# EAGLE library part DA14680 (library Deegou_IC)
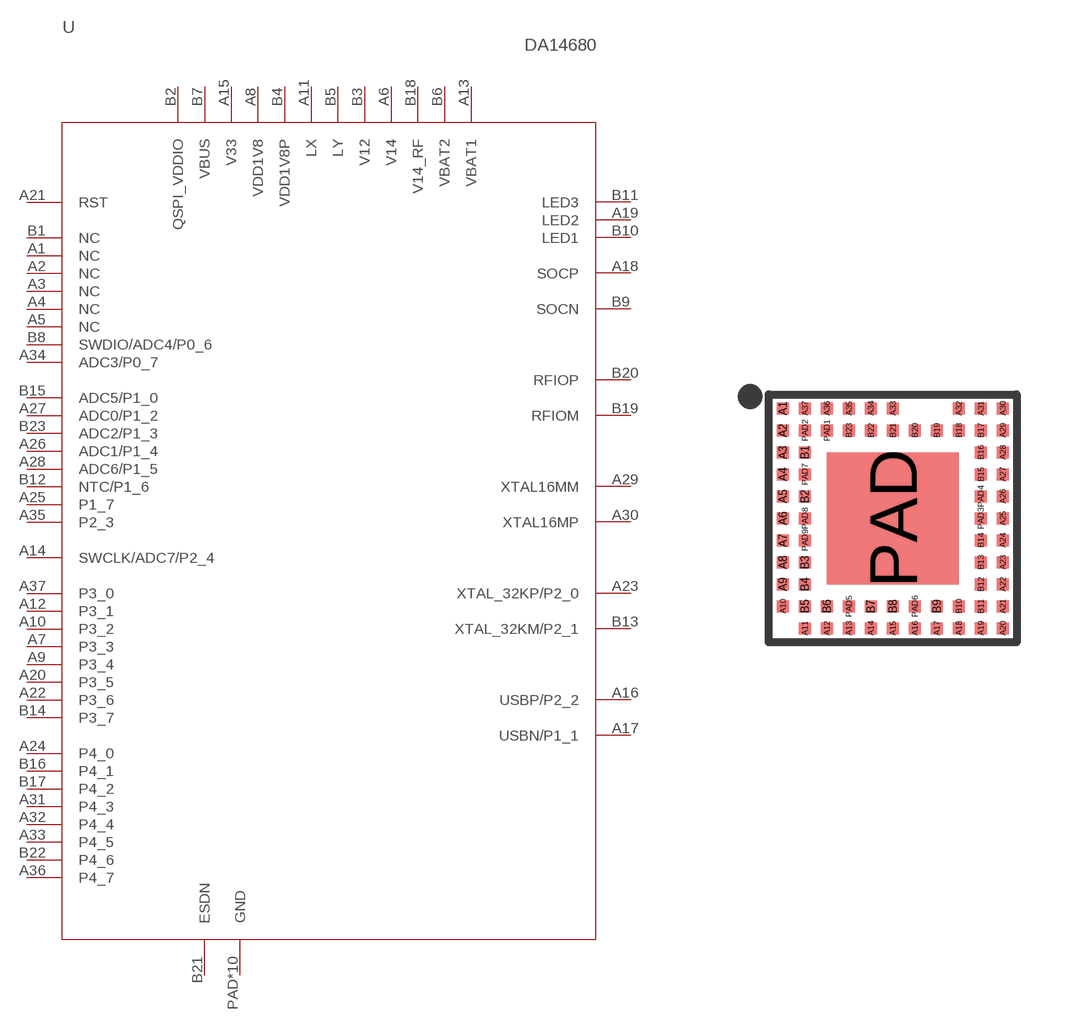
[diagram p166: symbol with the pads of AQFN60; footprint AQFN60]

Designator prefix U

## DA14680  [AQFN60]
A1  NC
A2  NC
A3  NC
A4  NC
A5  NC
A6  V14
A7  P3_3
A8  VDD1V8
A9  P3_4
A10  P3_2
A11  LX
A12  P3_1
A13  VBAT1
A14  SWCLK/ADC7/P2_4
A15  V33
A16  USBP/P2_2
A17  USBN/P1_1
A18  SOCP
A19  LED2
A20  P3_5
A21  RST
A22  P3_6
A23  XTAL_32KP/P2_0
A24  P4_0
A25  P1_7
A26  ADC1/P1_4
A27  ADC0/P1_2
A28  ADC6/P1_5
A29  XTAL16MM
A30  XTAL16MP
A31  P4_3
A32  P4_4
A33  P4_5
A34  ADC3/P0_7
A35  P2_3
A36  P4_7
A37  P3_0
B1  NC
B2  QSPI_VDDIO
B3  V12
B4  VDD1V8P
B5  LY
B6  VBAT2
B7  VBUS
B8  SWDIO/ADC4/P0_6
B9  SOCN
B10  LED1
B11  LED3
B12  NTC/P1_6
B13  XTAL_32KM/P2_1
B14  P3_7
B15  ADC5/P1_0
B16  P4_1
B17  P4_2
B18  V14_RF
B19  RFIOM
B20  RFIOP
B21  ESDN
B22  P4_6
B23  ADC2/P1_3
PAD  GND
PAD1  GND
PAD2  GND
PAD3  GND
PAD4  GND
PAD5  GND
PAD6  GND
PAD7  GND
PAD8  GND
PAD9  GND

## Footprint AQFN60 (pad centres in mm)
smd 0.3 x 0.3: A1 -2.75,2.75; A2 -2.75,2.2; A3 -2.75,1.65; A4 -2.75,1.1; A5 -2.75,0.55; A6 -2.75,0; A7 -2.75,-0.55; A8 -2.75,-1.1; A9 -2.75,-1.65; A10 -2.75,-2.2; A11 -2.2,-2.75; A12 -1.65,-2.75; A13 -1.1,-2.75; A14 -0.55,-2.75; A15 0,-2.75; A16 0.55,-2.75; A17 1.1,-2.75; A18 1.65,-2.75; A19 2.2,-2.75; A20 2.75,-2.75; A21 2.75,-2.2; A22 2.75,-1.65; A23 2.75,-1.1; A24 2.75,-0.55; A25 2.75,0; A26 2.75,0.55; A27 2.75,1.1; A28 2.75,1.65; A29 2.75,2.2; A30 2.75,2.75; A31 2.2,2.75; A32 1.65,2.75; A33 0,2.75; A34 -0.55,2.75; A35 -1.1,2.75; A36 -1.65,2.75; A37 -2.2,2.75; B1 -2.2,1.65; B2 -2.2,0.55; B3 -2.2,-1.1; B4 -2.2,-1.65; B5 -2.2,-2.2; B6 -1.65,-2.2; B7 -0.55,-2.2; B8 0,-2.2; B9 1.1,-2.2; B10 1.65,-2.2; B11 2.2,-2.2; B12 2.2,-1.65; B13 2.2,-1.1; B14 2.2,-0.55; B15 2.2,1.1; B16 2.2,1.65; B17 2.2,2.2; B18 1.65,2.2; B19 1.1,2.2; B20 0.55,2.2; B21 0,2.2; B22 -0.55,2.2; B23 -1.1,2.2; PAD1 -1.65,2.2; PAD2 -2.2,2.2; PAD3 2.2,0; PAD4 2.2,0.55; PAD5 -1.1,-2.2; PAD6 0.55,-2.2; PAD7 -2.2,1.1; PAD8 -2.2,0; PAD9 -2.2,-0.55
smd 3.3 x 3.3: PAD 0,0